# Altium schematic symbol library 691 214 110 0xx.SchLib: 2 symbols
Pins are listed as number, name and electrical type; pins without a type are passive.

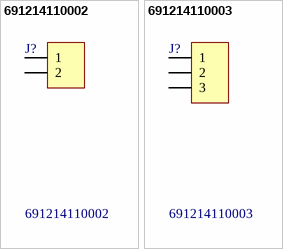
[diagram p0: symbols 691214110002 to 691214110003]

## 691214110002
designator J?
WR-TBL Terminal Blocks Serie 2141 - 3.50 mm with Rising Cage Clamp; Manufacturer: Würth Elektronik eiSos GmbH; ComponentLink1 Description: Manufacturer; ComponentLink2 Description: Datasheet; NoPins: 2; Created Date: 8 Novenber 2013; partNo: 691214110002; ComponentLink1URL: http://www.we-online.com; ComponentLink2URL: http://katalog.we-online.de/em/datasheet/6912141100xx.pdf; Created by: Karrer Zheng
footprint 691214110002 (3,50mm - Horizontal wire entry - Rising cage clamp - 02p)
pins: 1, 2

## 691214110003
designator J?
WR-TBL Terminal Blocks Serie 2141 - 3.50 mm with Rising Cage Clamp; Manufacturer: Würth Elektronik eiSos GmbH; ComponentLink1 Description: Manufacturer; ComponentLink2 Description: Datasheet; NoPins: 3; Created Date: 8 Novenber 2013; partNo: 691214110003; ComponentLink1URL: http://www.we-online.com; ComponentLink2URL: http://katalog.we-online.de/em/datasheet/6912141100xx.pdf; Created by: Karrer Zheng
footprint 691214110003 (3,50mm - Horizontal wire entry - Rising cage clamp - 03p)
pins: 1, 2, 3